# Altium footprint library SHDR6W64P254_2X3_1522X880X920P.PcbLib: 1 footprints
Each footprint in its own frame and in the unit in brackets; x right, y up, seen from the top. Pads: shape width x height; smd on the part's side, far side on the other; paste and mask are expansions set on the pad; w line width, h text height; cw(c..) or ccw(c..) is an arc to the next point about the centre after c.
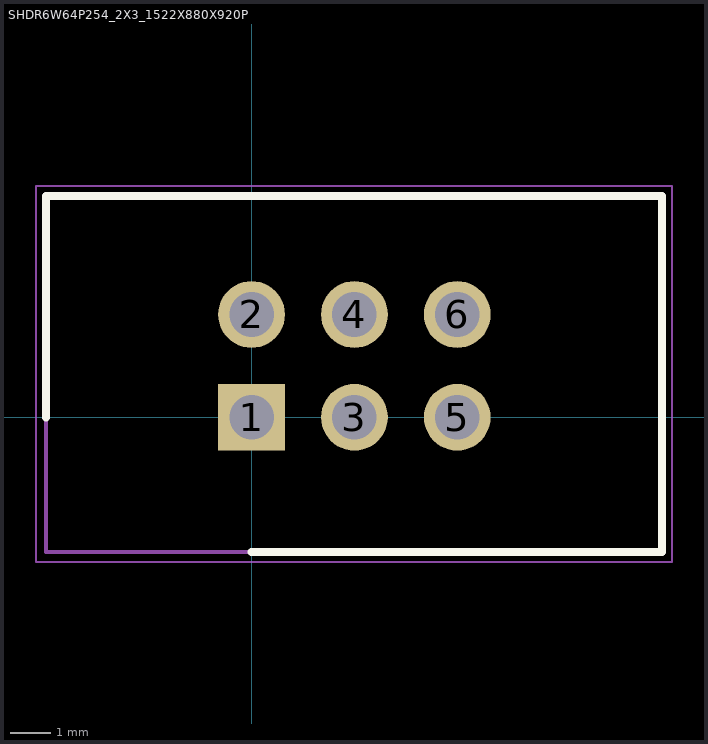
[diagram p0: the footprint, top view; thin cyan lines are the x and y axes]

## SHDR6W64P254_2X3_1522X880X920P [mm]
pads (6):
  rect 1.65x1.65 / inner round 1.65 / far side rect 1.65x1.65 hole 1.1: 1(0,0)
  round 1.65 hole 1.1: 2(0,2.54) 3(2.54,0) 4(2.54,2.54) 5(5.08,0) 6(5.08,2.54)
Top Overlay:
  lines w0.2: -5.08,0 -5.08,5.47 10.14,5.47 10.14,-3.33 0,-3.33
Mechanical 15:
  lines w0.1: -5.08,-3.33 -5.08,5.47 10.14,5.47 10.14,-3.33 -5.08,-3.33
Mechanical 20:
  lines w0.05: -5.33,-3.58 -5.33,5.72 10.39,5.72 10.39,-3.58 -5.33,-3.58